# Altium footprint library Custom.PcbLib: 66 footprints (part 2 of 5)
Each footprint in its own frame and in the unit in brackets; x right, y up, seen from the top. Pads: shape width x height; smd on the part's side, far side on the other; paste and mask are expansions set on the pad; w line width, h text height; cw(c..) or ccw(c..) is an arc to the next point about the centre after c.
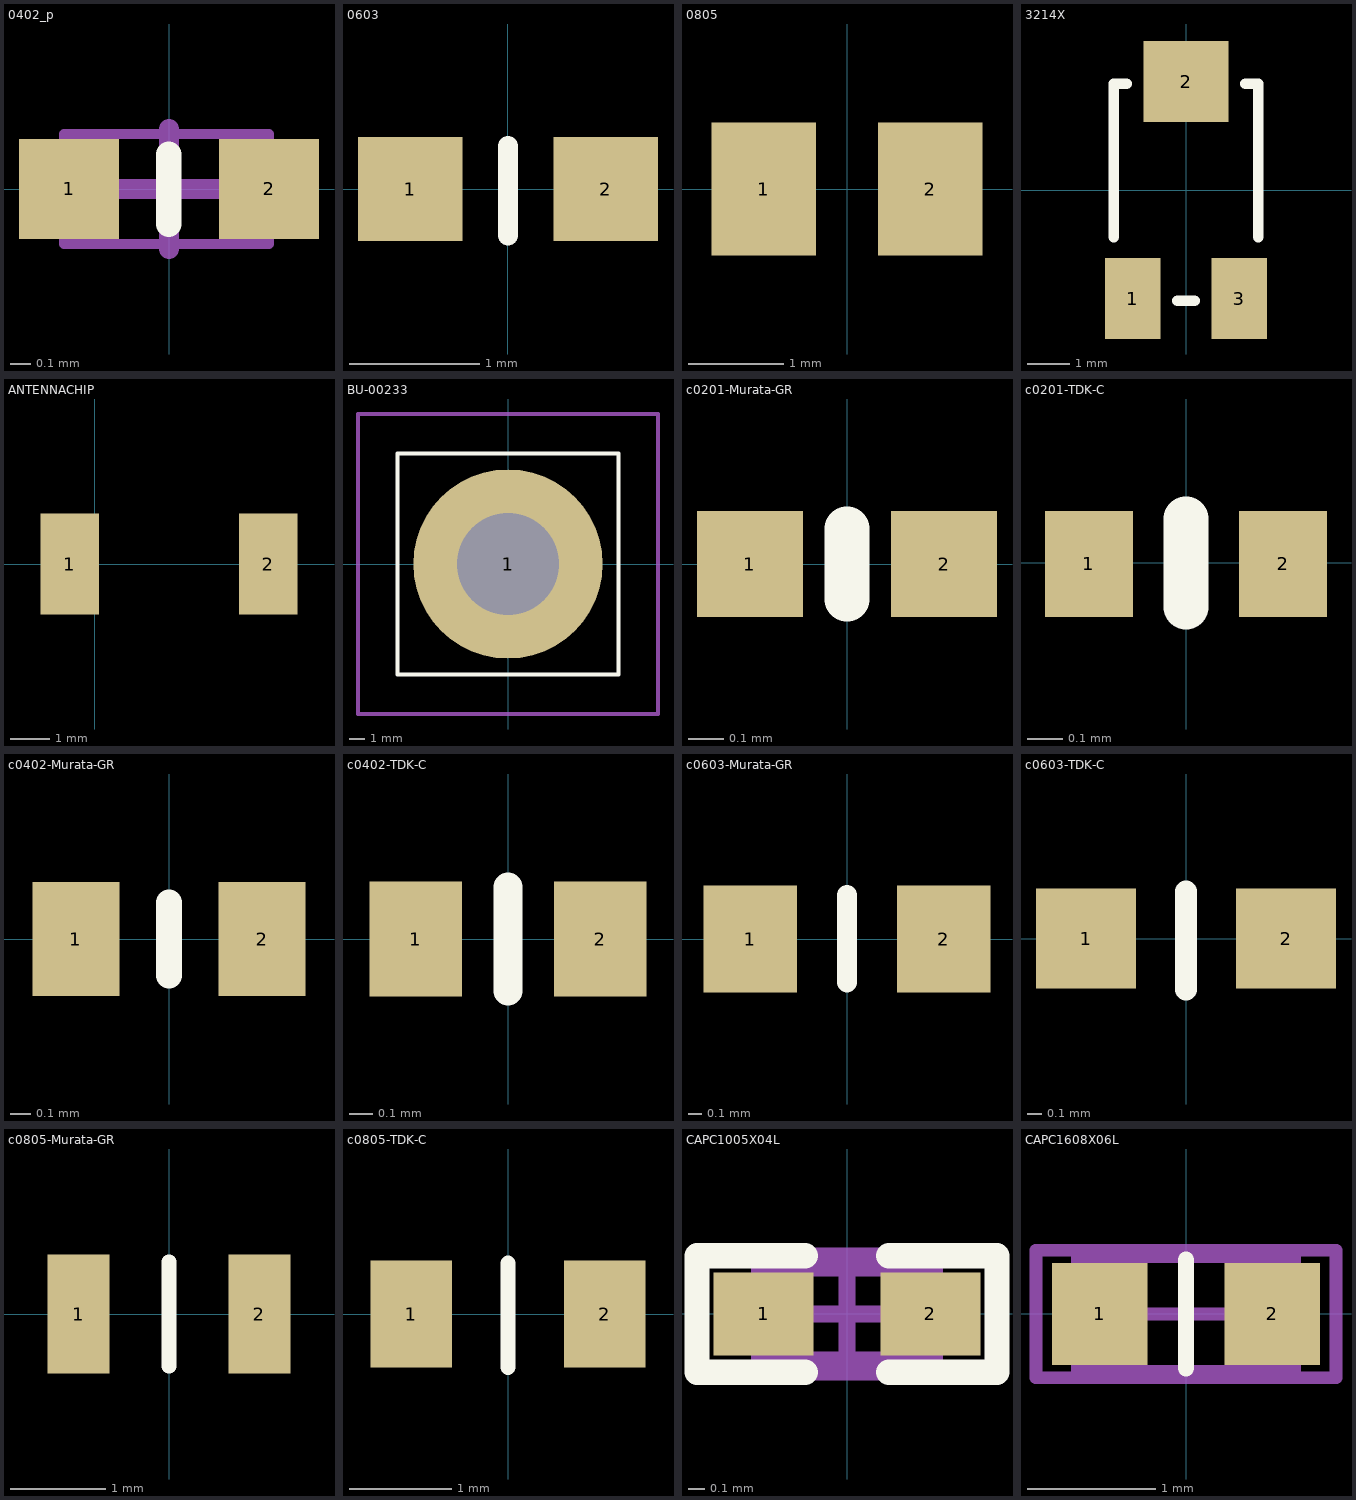
[diagram p1: the footprints below, top view; thin cyan lines are the x and y axes]

## 0402_p [mm] "Panasonic ERJ2 resitor"
pads (2):
  rect 0.5x0.5 smd: 1(-0.5,0) 2(0.5,0)
Top Overlay:
  lines w0.127: -0.002,-0.176 -0.002,0.174
Mechanical 13:
  lines w0.05: -0.525,-0.275 -0.525,0.275 0.5,0.275 0.5,-0.275 -0.525,-0.275
Mechanical 15:
  lines w0.1: -0.3,0 0.3,0 ; 0,-0.3 0,0.3
3D body: height 0.35, standoff 0, extent -0.3,-0.25 0.3,0.25
3D body: height 0.35, standoff 0, extent -0.5,-0.25 -0.3,0.25
3D body: height 0.35, standoff 0, extent 0.3,-0.25 0.5,0.25

## 0603 [mm]
pads (2):
  rect 0.8x0.8 smd: 1(-0.75,0) 2(0.75,0)
Top Overlay:
  lines w0.152: 0,-0.356 0,0.33
3D body: height 0.4, standoff 0, extent -0.61,-0.356 0.61,0.356
3D body: height 0.4, standoff 0, extent 0.483,-0.356 0.94,0.356
3D body: height 0.4, standoff 0, extent -0.914,-0.356 -0.457,0.356

## 0805 [mm] "Chip Resistor; Body 2 x 1.2 mm (LxW typ)"
height 0.7
pads (2):
  rect 1.1x1.4 smd: 1(-0.875,0) 2(0.875,0)

## 3214X [mm] "Bournes trimmer resistor"
pads (3):
  rect 1.3x1.9 smd: 1(-1.25,-2.55) 3(1.25,-2.55)
  rect 2x1.9 smd: 2(0,2.55)
Top Overlay:
  lines w0.254: -1.7,-1.1 -1.7,2.5 -1.4,2.5 ; -0.2,-2.6 0.2,-2.6 ; 1.4,2.5 1.7,2.5 1.7,-1.1

## ANTENNACHIP [mm] "Chip ANTENNA SMD"
height 0.4
pads (2):
  rect 1.5x2.6 smd: 1(-0.65,0) 2(4.45,0)

## BU-00233 [mm] "Single banana jack"
pads (1):
  round 12 hole 6.45: 1(0,0)
Top Overlay:
  lines w0.254: -7,-7 7,-7 7,7 -7,7 -7,-7
Mechanical 1:
  lines w0.254: -9.5,-9.5 9.5,-9.5 9.5,9.5 -9.5,9.5 -9.5,-9.5
3D body: height 6.35, standoff 0, extent -6.35,-6.348 6.35,6.348

## c0201-Murata-GR [mm] "Murata GR series 0201 capacitor"
pads (2):
  rect 0.3x0.3 smd mask+0.05: 1(-0.275,0) 2(0.275,0)
Top Overlay:
  lines w0.127: 0,-0.1 0,0.1
3D body: height 0.3, standoff 0, extent -0.15,-0.15 0.15,0.15
3D body: height 0.3, standoff 0, extent 0.15,-0.15 0.3,0.15
3D body: height 0.3, standoff 0, extent -0.3,-0.15 -0.15,0.15

## c0201-TDK-C [mm] "TDK C series 0201 capacitor"
pads (2):
  rect 0.25x0.3 smd mask+0.05: 1(-0.275,-0.003) 2(0.275,-0.003)
Top Overlay:
  lines w0.127: 0,-0.125 0,0.125

## c0402-Murata-GR [mm] "Murata GR-series 0402 capacitor"
height 0.4
pads (2):
  rect 0.42x0.55 smd: 1(-0.45,0) 2(0.45,0)
Top Overlay:
  lines w0.127: 0,-0.175 0,0.175
3D body: height 0.5, standoff 0, extent -0.25,-0.25 0.25,0.25
3D body: height 0.5, standoff 0, extent 0.25,-0.25 0.5,0.25
3D body: height 0.5, standoff 0, extent -0.5,-0.25 -0.25,0.25

## c0402-TDK-C [mm] "TDK C-series 0402 capacitor"
height 0.4
pads (2):
  rect 0.4x0.5 smd: 1(-0.4,0) 2(0.4,0)
Top Overlay:
  lines w0.127: 0,-0.225 0,0.225
3D body: height 0.5, standoff 0, extent -0.275,-0.25 0.275,0.25
3D body: height 0.5, standoff 0, extent 0.275,-0.25 0.5,0.25
3D body: height 0.5, standoff 0, extent -0.5,-0.25 -0.275,0.25

## c0603-Murata-GR [mm] "Murata GR-series 0603 capacitor"
pads (2):
  rect 0.7x0.8 smd: 1(-0.725,0) 2(0.725,0)
Top Overlay:
  lines w0.152: 0,-0.325 0,0.33
3D body: height 0.8, standoff 0, extent -0.5,-0.4 0.5,0.4
3D body: height 0.8, standoff 0, extent 0.5,-0.4 0.804,0.4
3D body: height 0.8, standoff 0, extent -0.8,-0.4 -0.5,0.4

## c0603-TDK-C [mm] "TDK C-series 0603 capacitor"
pads (2):
  rect 0.7x0.7 smd: 1(-0.7,0) 2(0.7,0)
Top Overlay:
  lines w0.152: 0,-0.356 0,0.33

## c0805-Murata-GR [mm] "Murata GR-series 0805 capacitor"
height 0.7
pads (2):
  rect 0.65x1.25 smd: 1(-0.95,0) 2(0.95,0)
Top Overlay:
  lines w0.152: 0,-0.55 0,0.55

## c0805-TDK-C [mm] "TDK C-series 0805 capacitor"
height 0.7
pads (2):
  rect 0.8x1.05 smd: 1(-0.95,0) 2(0.95,0)
Top Overlay:
  lines w0.152: 0,-0.525 0,0.5

## CAPC1005X04L [mm]
pads (2):
  rect 0.6x0.5 smd: 1(-0.5,0) 2(0.5,0)
Top Overlay:
  lines w0.152: -0.25,-0.35 -0.9,-0.35 -0.9,0.35 -0.25,0.35 ; 0.25,-0.35 0.9,-0.35 0.9,0.35 0.25,0.35
Mechanical 13:
  lines w0.1: -0.525,-0.275 -0.525,0.275 0.525,0.275 0.525,-0.275 -0.525,-0.275
Mechanical 15:
  lines w0.1: -0.275,0 0.275,0 ; 0,-0.275 0,0.275 ; -0.9,-0.35 0.9,-0.35 0.9,0.35 -0.9,0.35 -0.9,-0.35
3D body: height 0.5, standoff -0.01, extent -0.508,-0.254 0.508,0.254

## CAPC1608X06L [mm]
pads (2):
  rect 0.75x0.8 smd: 1(-0.675,0) 2(0.675,0)
Top Overlay:
  lines w0.127: 0,-0.425 0,0.425
Mechanical 13:
  lines w0.1: -0.85,-0.45 -0.85,0.45 0.85,0.45 0.85,-0.45 -0.85,-0.45
Mechanical 15:
  lines w0.1: -0.45,0 0.45,0 ; 0,-0.45 0,0.45 ; -1.175,-0.5 1.175,-0.5 1.175,0.5 -1.175,0.5 -1.175,-0.5
3D body: height 0.8, standoff 0, extent -0.8,-0.43 0.8,0.43